# Altium footprint library Headers.PcbLib: 10 footprints
Each footprint in its own frame and in the unit in brackets; x right, y up, seen from the top. Pads: shape width x height; smd on the part's side, far side on the other; paste and mask are expansions set on the pad; w line width, h text height; cw(c..) or ccw(c..) is an arc to the next point about the centre after c.
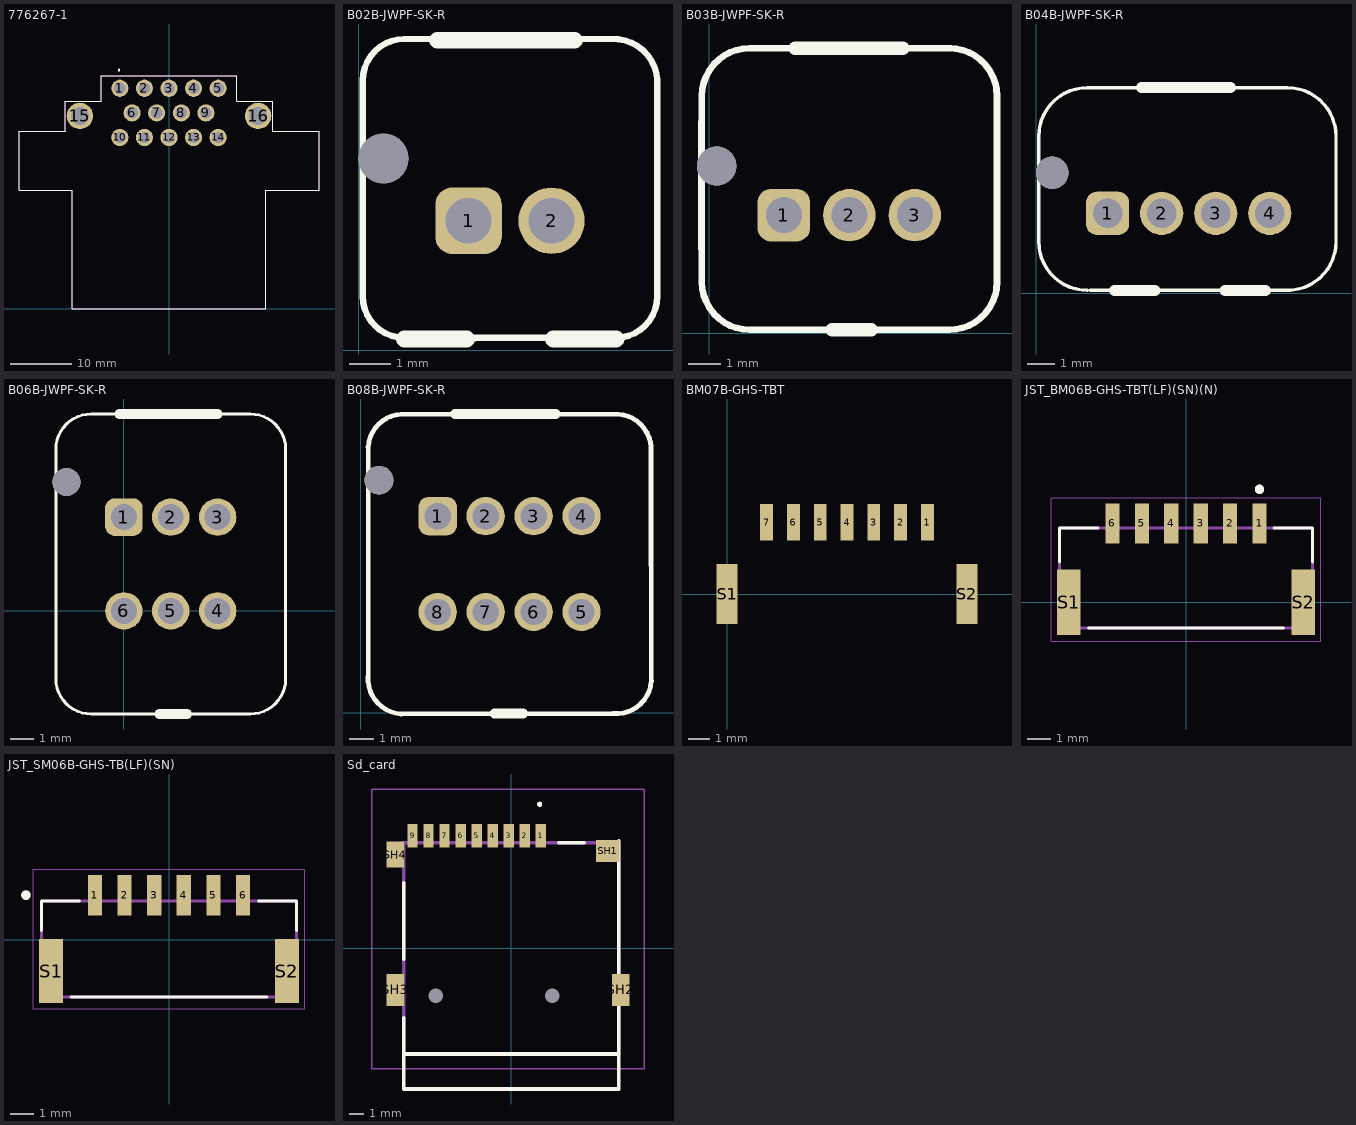
[diagram p0: the footprints below, top view; thin cyan lines are the x and y axes]

## 776267-1 [mm]
pads (16):
  round 2.8 hole 1.85: 1(-8,35.85) 2(-4,35.85) 3(0,35.85) 4(4,35.85) 5(8,35.85) 6(-6,31.85) 7(-2,31.85) 8(2,31.85) 9(6,31.85) 10(-8,27.85) 11(-4,27.85) 12(0,27.85) 13(4,27.85) 14(8,27.85)
  round 4.3 hole 2.93: 15(-14.5,31.35) 16(14.5,31.35)
Top Overlay:
  circle w0.2: c-8.163,38.802 r0.128
  lines w0.2: -24.4,19.3 -15.7,19.3 -15.7,0 15.7,0 15.7,19.3 24.4,19.3 24.4,28.82 16.844,28.82 16.844,33.774 11,33.774 11,37.9 -11,37.9 -11,33.774 -16.844,33.774 -16.844,28.82 -24.4,28.82 -24.4,19.3
Mechanical 13:
  lines w0.2: -24.4,19.3 -15.7,19.3 -15.7,0 15.7,0 15.7,19.3 24.4,19.3 24.4,28.82 16.844,28.82 16.844,33.774 11,33.774 11,37.9 -11,37.9 -11,33.774 -16.844,33.774 -16.844,28.82 -24.4,28.82 -24.4,19.3
3D body "776267-1.stp": height 27.88, standoff -4.22, extent -24.4,0.09 24.4,37.89

## B02B-JWPF-SK-R [mm]
pads (3):
  rrect50% 1.6x1.6 hole 1.1: 1(2.65,3.12)
  round 1.6 hole 1.1: 2(4.65,3.12)
  round 1.2 hole 1.2 unplated: ""(0.6,4.62)
Top Overlay:
  lines w0.127: 0.1,1.17 0.1,1.3 0.1,5.97 ; 1.9,0.27 2.8,0.27
  lines w0.152: 6.095,7.5 cw(c6.15,6.45) 7.2,6.505 ; 6.1,7.5 1.1,7.5 ; 7.2,6.5 7.2,1.3 cw(c6.2,1.3) 6.2,0.3 1.1,0.3 cw(c1.1,1.3) 0.1,1.3 0.1,6.5 ; 0.1,6.5 cw(c1.1,6.5) 1.1,7.5 ; 0.1,6.5 cw(c1.1,6.5) 1.1,7.5
  lines w0.406: 1.1,0.27 2.6,0.27 ; 1.9,7.47 5.2,7.47 ; 4.7,0.27 6.2,0.27
3D body "B02B-JWPF-SK-R.STEP": height 16.61, standoff -3.29, extent 0.15,0.52 7.15,8.62

## B03B-JWPF-SK-R [mm]
pads (4):
  rrect50% 1.6x1.6 hole 1.1: 1(2.28,3.6)
  round 1.6 hole 1.1: 2(4.28,3.6) 3(6.28,3.6)
  round 1.2 hole 1.2 unplated: ""(0.23,5.1)
Top Overlay:
  lines w0.127: -0.27,2.56 -0.27,6.46
  lines w0.203: 1.24,0.1 cw(c1.24,1.56) -0.22,1.56 -0.22,7.24 cw(c1.24,7.24) 1.24,8.7 1.31,8.7 ; 1.27,0.1 7.34,0.1 ; 1.35,8.7 7.37,8.7 ; 7.33,0.1 ccw(c7.33,1.56) 8.79,1.56 ; 7.33,8.7 cw(c7.33,7.24) 8.79,7.24 ; 8.79,1.55 8.79,7.23
  lines w0.406: 2.62,8.7 5.92,8.7 ; 3.75,0.1 4.95,0.1
3D body "B03B-JWPF-SK-R.STEP": height 16.61, standoff -3.29, extent -0.22,0.7 8.78,9.1

## B04B-JWPF-SK-R [mm]
pads (5):
  rrect50% 1.6x1.6 hole 1.1: 1(2.65,2.95)
  round 1.6 hole 1.1: 2(4.65,2.95) 3(6.65,2.95) 4(8.65,2.95)
  round 1.2 hole 1.2 unplated: ""(0.6,4.45)
Top Overlay:
  lines w0.127: 1.9,0.1 cw(c1.9,1.9) 0.1,1.9 0.1,5.8 ; 2,0.1 2.9,0.1 ; 3.9,7.6 1.9,7.6 ; 4.4,0.1 7,0.1 ; 7.2,7.6 9.3,7.6 cw(c9.3,5.8) 11.1,5.8 11.1,1.9 cw(c9.3,1.9) 9.3,0.1 ; 8.5,0.1 9.3,0.1 ; 9.4,0.1 9.3,0.1 ; 0.1,5.8 cw(c1.9,5.8) 1.9,7.6 ; 0.1,5.8 cw(c1.9,5.8) 1.9,7.6
  lines w0.406: 2.9,0.1 4.4,0.1 ; 3.9,7.6 7.2,7.6 ; 7,0.1 8.5,0.1
3D body "B04B-JWPF-SK-R.STEP": height 16.61, standoff -3.29, extent 0.15,0.05 11.15,8.45

## B06B-JWPF-SK-R [mm]
pads (7):
  rrect50% 1.6x1.6 hole 1.1: 1(0,4)
  round 1.6 hole 1.1: 2(2,4) 3(4,4) 4(4,0) 5(2,0) 6(0,0)
  round 1.2 hole 1.2 unplated: ""(-2.45,5.5)
Top Overlay:
  lines w0.127: -0.2,8.4 -1.4,8.4 ccw(c-1.4,6.9) -2.9,6.9 -2.9,-2.9 ccw(c-1.4,-2.9) -1.4,-4.4 1.5,-4.4 ; 2.7,-4.4 5.4,-4.4 ccw(c5.4,-2.9) 6.9,-2.9 6.9,6.9 ccw(c5.4,6.9) 5.4,8.4 4,8.4
  lines w0.406: -0.2,8.4 4,8.4 ; 1.5,-4.4 2.7,-4.4
3D body "B06B-JWPF-SK-R.STEP": height 16.61, standoff -3.29, extent -2.9,-3 6.9,9.8

## B08B-JWPF-SK-R [mm]
pads (9):
  rrect50% 1.6x1.6 hole 1.1: 1(3.2,8.2)
  round 1.6 hole 1.1: 2(5.2,8.2) 3(7.2,8.2) 4(9.2,8.2) 5(9.2,4.2) 6(7.2,4.2) 7(5.2,4.2) 8(3.2,4.2)
  round 1.2 hole 1.2 unplated: ""(0.75,9.7)
Top Overlay:
  lines w0.127: 2.67,-0.03 5.57,-0.03 ; 2.72,12.46 3.92,12.46 ; 6.77,-0.03 9.47,-0.03 ; 8.12,12.46 9.52,12.46
  lines w0.203: 0.299,1.518 ccw(c1.765,1.415) 1.662,-0.051 ; 0.299,11.088 cw(c1.765,10.985) 1.868,12.451 ; 0.3,1.58 0.3,11.1 ; 1.69,-0.05 10.51,-0.04 ; 1.92,12.45 10.73,12.45 ; 10.542,-0.041 ccw(c10.645,1.425) 12.111,1.322 ; 10.738,12.451 cw(c10.635,10.985) 12.101,10.882 ; 12.1,10.86 12.11,1.33
  lines w0.406: 3.92,12.46 8.12,12.46 ; 5.57,-0.03 6.77,-0.03
3D body "B08B-JWPF-SK-R.STEP": height 16.61, standoff -3.29, extent 0.3,1.2 12.1,13.7

## BM07B-GHS-TBT [mm]
pads (9):
  rect 0.6x1.7 smd: 1(9.35,3.35) 2(8.1,3.35) 3(6.85,3.35) 4(5.6,3.35) 5(4.35,3.35) 6(3.1,3.35) 7(1.85,3.35)
  rect 1x2.8 smd: S1(0,0) S2(11.2,0)
3D body "BM07B-GHS-TBT-LF--SN---3DModel-STEP-56544.STEP": height 4.21, standoff 0.01, extent -0.4,-1.3 11.6,3.65

## JST_BM06B-GHS-TBT(LF)(SN)(N) [mm]
pads (8):
  rect 0.6x1.7 smd: 1(3.125,3.35) 2(1.875,3.35) 3(0.625,3.35) 4(-0.625,3.35) 5(-1.875,3.35) 6(-3.125,3.35)
  rect 1x2.8 smd: S1(-4.975,0) S2(4.975,0)
Top Overlay:
  circle w0.2: c3.125,4.8 r0.1
  lines w0.127: -5.375,1.72 -5.375,3.15 -3.75,3.15 ; -4.15,-1.1 4.15,-1.1 ; 3.75,3.15 5.375,3.15 5.375,1.72
Mechanical 13:
  circle w0.2: c3.125,4.8 r0.1
  lines w0.127: -5.375,-1.1 -5.375,3.15 5.375,3.15 5.375,-1.1 -5.375,-1.1
Mechanical 15:
  lines w0.05: -5.725,-1.65 -5.725,4.45 5.725,4.45 5.725,-1.65 -5.725,-1.65
3D body "BM06B-GHS-TBT-LF--SN--N---3DModel-STEP-56544.STEP": height 4.16, standoff 0.01, extent -5.375,-1.075 5.375,3.875

## JST_SM06B-GHS-TB(LF)(SN) [mm]
pads (8):
  rect 0.6x1.7 smd: 1(-3.125,1.875) 2(-1.875,1.875) 3(-0.625,1.875) 4(0.625,1.875) 5(1.875,1.875) 6(3.125,1.875)
  rect 1x2.7 smd: S1(-4.975,-1.325) S2(4.975,-1.325)
Top Overlay:
  circle w0.2: c-6.032,1.875 r0.1
  lines w0.127: -5.375,0.375 -5.375,1.625 -3.775,1.625 ; -4.125,-2.425 4.125,-2.425 ; 3.775,1.625 5.375,1.625 5.375,0.375
Mechanical 13:
  circle w0.2: c-6.032,1.875 r0.1
  lines w0.127: -5.375,-2.425 -5.375,1.625 5.375,1.625 5.375,-2.425 -5.375,-2.425
Mechanical 15:
  lines w0.05: -5.725,-2.925 5.725,-2.925 5.725,2.975 -5.725,2.975 -5.725,-2.925

## Sd_card [mm] "THD252811SDGF"
pads (15):
  rect 0.7x1.6 smd: 1(2.025,7.75) 2(0.925,7.75) 3(-0.175,7.75) 4(-1.275,7.75) 5(-2.375,7.75) 6(-3.475,7.75) 7(-4.575,7.75) 8(-5.675,7.75) 9(-6.775,7.75)
  round 0.5 hole 1 unplated: MH1(2.825,-3.25) MH2(-5.175,-3.25)
  rect 1.6x1.5 smd: SH1(6.625,6.7)
  rect 1.2x2.2 smd: SH2(7.525,-2.85) SH3(-7.975,-2.85)
  rect 1.2x1.8 smd: SH4(-7.975,6.45)
Top Overlay:
  lines w0.25: 7.375,-5 7.375,-7.25 ; 7.375,7.375 7.375,-7.25 ; -7.375,-7.25 -7.375,-4.75 -7.375,-7.25 ; -7.375,-7.25 7.375,-7.25 ; -7.375,-7.25 7.375,-7.25 ; -7.375,-7.25 -7.375,-9.65 7.375,-9.65 7.375,-7.25 ; 1.9,9.9 ccw(c1.95,9.9) 2,9.9 ; 1.9,9.9 cw(c1.95,9.9) 2,9.9 ; 1.9,9.9 ccw(c1.95,9.9) 2,9.9 ; -7.375,-0.75 -7.375,4.5 -7.375,-0.75 ; 3.25,7.25 5,7.25 3.25,7.25 ; 7.375,-0.75 7.375,4.75 7.375,-0.75
Mechanical 15:
  lines w0.25: -7.375,-7.25 7.375,-7.25 7.375,7.25 -7.375,7.25 -7.375,-7.25
Mechanical 20:
  lines w0.1: -9.575,-8.25 9.125,-8.25 9.125,10.95 -9.575,10.95 -9.575,-8.25
3D body "THD2528-11SD-GF.stp": height 2.1, standoff -1.7, extent -8.455,-7.25 8.005,8.48